# EAGLE library part TXS0108E (library biomimetic)
8-BIT BIDIRECTIONAL VOLTAGE-LEVEL TRANSLATOR FOR OPEN-DRAIN AND PUSH-PULL APPLICATIONS
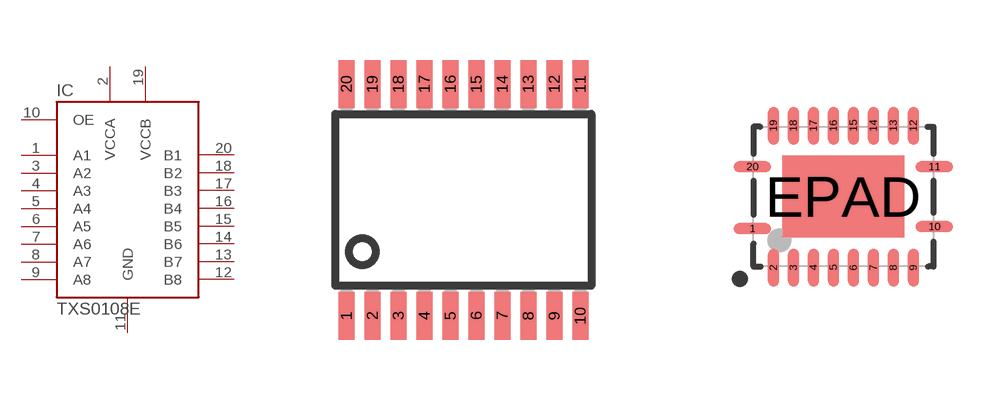
[diagram p15: symbol with the pads of R-PDSO-G20; footprints R-PDSO-G20, R-PVQFN-N20]

Designator prefix IC

## TXS0108EPW (DIGIKEY: 296-23011-1-ND)  [R-PDSO-G20]
1  A1
2  VCCA
3  A2
4  A3
5  A4
6  A5
7  A6
8  A7
9  A8
10  OE
11  GND
12  B8
13  B7
14  B6
15  B5
16  B4
17  B3
18  B2
19  VCCB
20  B1

## TXS0108ERGY (DIGIKEY: 296-24806-1-ND)  [R-PVQFN-N20]
1  A1
2  VCCA
3  A2
4  A3
5  A4
6  A5
7  A6
8  A7
9  A8
10  OE
11  GND
12  B8
13  B7
14  B6
15  B5
16  B4
17  B3
18  B2
19  VCCB
20  B1
EPAD  GND

## Footprint R-PDSO-G20 (pad centres in mm)
PLASTIC SMALL-OUTLINE PACKAGE SO 20 JEDEC MO-153, PW Type Source: www.ti.com/.. slvs087l.pdf
smd 0.4 x 1.2: 1 -2.925,-2.9; 2 -2.275,-2.9; 3 -1.625,-2.9; 4 -0.975,-2.9; 5 -0.325,-2.9; 6 0.325,-2.9; 7 0.975,-2.9; 8 1.625,-2.9; 9 2.275,-2.9; 10 2.925,-2.9; 11 2.925,2.9; 12 2.275,2.9; 13 1.625,2.9; 14 0.975,2.9; 15 0.325,2.9; 16 -0.325,2.9; 17 -0.975,2.9; 18 -1.625,2.9; 19 -2.275,2.9; 20 -2.925,2.9

## Footprint R-PVQFN-N20 (pad centres in mm)
PLASTIC QUAD FLATPACK NO LEAD JEDEC MO-241, RGY Type Source: http://www.ti.com/lit/ml/mpqf116g/mpqf116g.pdf
smd 0.95 x 0.28: 1 -2.275,-0.8; 10 2.275,-0.75; 11 2.275,0.75; 20 -2.275,0.75
smd 0.28 x 0.95: 2 -1.75,-1.775; 3 -1.25,-1.775; 4 -0.75,-1.775; 5 -0.25,-1.775; 6 0.25,-1.775; 7 0.75,-1.775; 8 1.25,-1.775; 9 1.75,-1.775; 12 1.75,1.775; 13 1.25,1.775; 14 0.75,1.775; 15 0.25,1.775; 16 -0.25,1.775; 17 -0.75,1.775; 18 -1.25,1.775; 19 -1.75,1.775
smd 3.05 x 2.05: EPAD 0,0